# Altium footprint library Crystals-Molvik.PcbLib: 2 footprints
Each footprint in its own frame and in the unit in brackets; x right, y up, seen from the top. Pads: shape width x height; smd on the part's side, far side on the other; paste and mask are expansions set on the pad; w line width, h text height; cw(c..) or ccw(c..) is an arc to the next point about the centre after c.
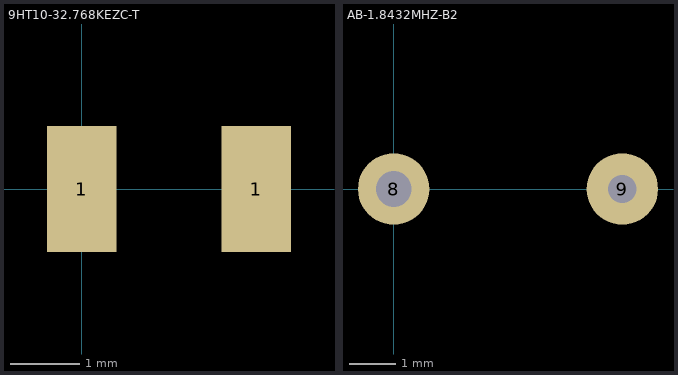
[diagram p0: the footprints below, top view; thin cyan lines are the x and y axes]

## 9HT10-32.768KEZC-T [mm]
pads (2):
  rect 1x1.8 smd: 1(0,0) 1(2.5,0)

## AB-1.8432MHZ-B2 [mil]
pads (2):
  round 60 hole 30: 8(0,0)
  round 60 hole 23.62: 9(192.13,0)